# EAGLE library part LAB-PLR5010D (library LAB304)
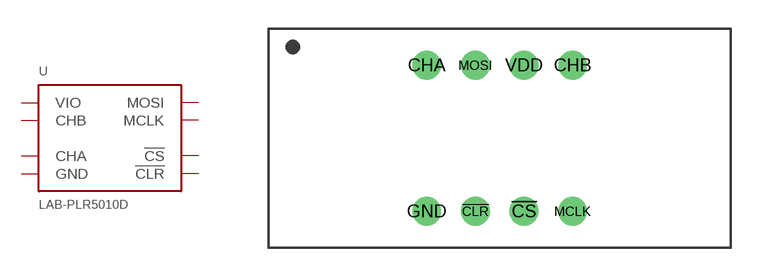
[diagram p4: symbol with the pads of LAB-PLR5010D; footprint LAB-PLR5010D]

Designator prefix -

## LAB-PLR5010D  [LAB-PLR5010D]
!CLR  !CS
!CS  !CLR
CHA  GND  pwr
CHB  CHA  pwr
GND  MCLK
MCLK  CHB
MOSI  MOSI
VDD  VIO  pwr

## Footprint LAB-PLR5010D (pad centres in mm)
drill 1: !CLR -1.27,-3.81; !CS 1.27,-3.81; CHA -3.81,3.81; CHB 3.81,3.81; GND -3.81,-3.81; MCLK 3.81,-3.81; MOSI -1.27,3.81; VDD 1.27,3.81